# Altium schematic symbol library Transistor.SchLib: 1 symbol
Pins are listed as number, name and electrical type; pins without a type are passive.

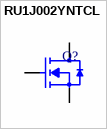
[diagram p0: symbol RU1J002YNTCL]

## RU1J002YNTCL
designator Q?  (value not drawn)
MOSFET N-CH SMD SOT-323 50V 0.2A; Manufacturer: Rohm; Manufacturer Part Number: RU1J002YNTCL; Continuous Drain Current (ID): 200mA; Rds On Max: 2.2R; Input Capacitance: 26pF; Max Power Dissipation: 150mW; Supplier 1: RSComponents; RoHS: Yes; Category: MOSFETs; Stock 1: 1; Pricing 1: 100=0,11100, 500=0,09900, 1000=0,09400, 2500=0,08300, 5000=0,07200 (USD); Mount: Surface Mount; Case/Package: SC; Number of Pins: 85; Packaging: Tape and Reel; Drain to Source Voltage (Vdss): 50V; Lead Free: Lead Free; RoHS Compliant: Yes; ComponentLink1URL: http://www.farnell.com/datasheets/2198005.pdf?src-supplier=Farnell; ComponentLink1Description: http://www.farnell.com/datasheets/2198005.pdf?src-supplier=Farnell; ComponentLink2URL: http://www.mouser.com/ds/2/348/ru1j002yn-e-1018335.pdf?src-supplier=Mouser; ComponentLink2Description: http://www.mouser.com/ds/2/348/ru1j002yn-e-1018335.pdf?src-supplier=Mouser; ComponentLink3URL: http://www.farnell.com/datasheets/2198005.pdf?src-supplier=Newark; ComponentLink3Description: http://www.farnell.com/datasheets/2198005.pdf?src-supplier=Newark; ComponentLink4URL: http://www.farnell.com/datasheets/2198005.pdf?src-supplier=Element14; ComponentLink4Description: http://www.farnell.com/datasheets/2198005.pdf?src-supplier=Element14; ComponentLink5URL: http://rohmfs.rohm.com/en/products/databook/datasheet/discrete/transistor/mosfet/ru1j002yn.pdf?src-supplier=Avnet; ComponentLink5Description: http://rohmfs.rohm.com/en/products/databook/datasheet/discrete/transistor/mosfet/ru1j002yn.pdf?src-supplier=Avnet; ComponentLink6URL: http://rohmfs.rohm.com/en/techdata_basic/transistor/taping/UMT3_T106_taping.pdf?src-supplier=Digi-Key; ComponentLink6Description: http://rohmfs.rohm.com/en/techdata_basic/transistor/taping/UMT3_T106_taping.pdf?src-supplier=Digi-Key; Supplier Part Number 1: 1246836
footprint SOT-323
pins: 1 G, 2 S, 3 D